# Altium footprint library 创新实验室51开发板.PcbLib: 26 footprints (part 2 of 2)
Each footprint in its own frame and in the unit in brackets; x right, y up, seen from the top. Pads: shape width x height; smd on the part's side, far side on the other; paste and mask are expansions set on the pad; w line width, h text height; cw(c..) or ccw(c..) is an arc to the next point about the centre after c.
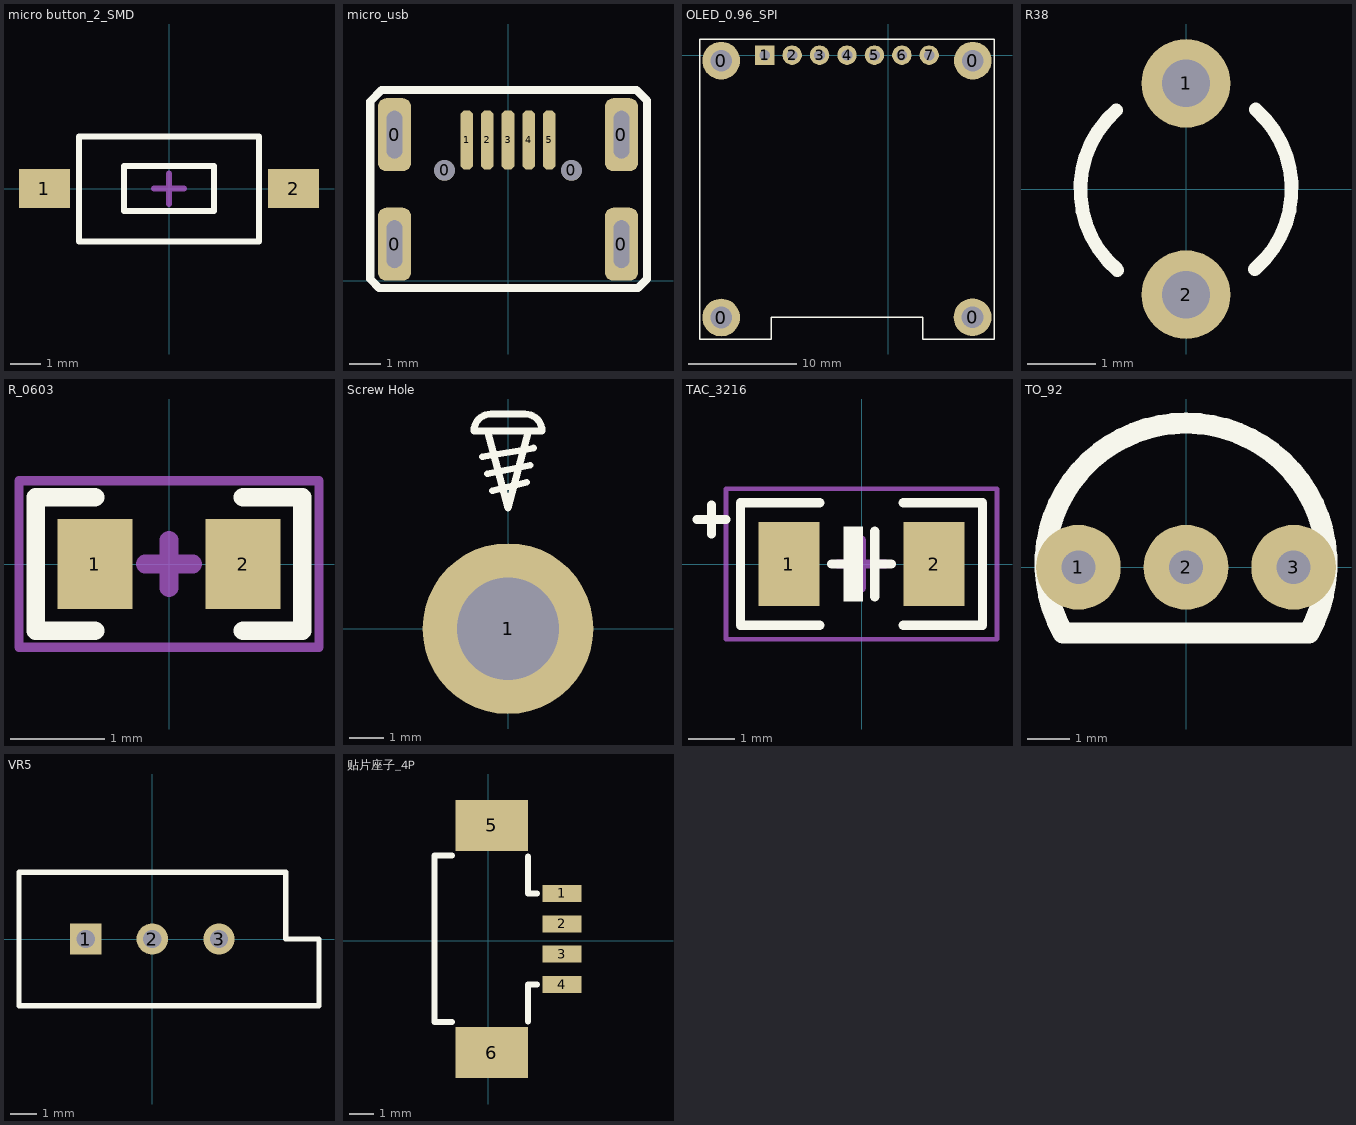
[diagram p1: the footprints below, top view; thin cyan lines are the x and y axes]

## micro button_2_SMD [mm]
height 4.06
pads (2):
  rect 1.7x1.3 smd: 1(-4.15,0) 2(4.15,0)
Top Overlay:
  lines w0.2: -3,-1.76 3,-1.76 3,1.74 -3,1.74 -3,-1.76 ; -1.495,-0.75 -1.495,0.75 1.505,0.75 1.505,-0.75 -1.495,-0.75
Mechanical 15:
  lines w0.2: -0.508,0 0.508,0 ; 0,-0.508 0,0.508
3D body "Micro Button_2_SMD.STEP": height 4.51, standoff 0.01, extent -4.5,-1.75 4.5,1.75

## micro_usb [mm]
pads (11):
  rrect50% 1.05x2.3 hole 0.5 slot 1.5 at 90 deg: 0(-3.575,1.15) 0(-3.575,4.6) 0(3.575,1.15) 0(3.575,4.6)
  round 0.65 hole 0.65 unplated: 0(-2,3.475) 0(2,3.475)
  oct 0.4x1.85 smd: 1(-1.3,4.434) 2(-0.65,4.434) 3(0,4.434) 4(0.65,4.434) 5(1.3,4.434)
Top Overlay:
  lines w0.254: -4.34,0.05 -4.06,-0.23 4.09,-0.23 4.38,0.06 4.38,5.68 4.05,6.01 -3.98,6.01 -4.34,5.65 -4.34,0.05

## OLED_0.96_SPI [mm] "GND、VCC、SCL、SDA"
height 4.06
pads (11):
  round 3.5 hole 2 unplated mask+0.102: 0(-15.469,-24.308) 0(-15.469,-0.508) 0(7.823,-24.282) 0(7.849,-0.508)
  rect 1.8x1.8 hole 1 mask+0.102: 1(-11.43,0)
  round 1.8 hole 1 mask+0.102: 2(-8.89,0) 3(-6.35,0) 4(-3.81,0) 5(-1.27,0) 6(1.27,0) 7(3.81,0)
Top Overlay:
  lines w0.127: 9.83,1.5 -17.46,1.5 -17.46,-26.3 -10.81,-26.3 -10.81,-24.3 -10.792,-24.282 1.172,-24.282 3.2,-24.282 3.19,-24.293 3.19,-26.3 9.84,-26.3 9.84,1.5

## R38 [mm] "Crystal, Thru-Hole; 2 Leads; Body 3.1 x 8.2 mm (Dia.xH)"
height 8.2
pads (2):
  round 1.3 hole 0.7: 1(0,1.55) 2(0,-1.55)
Top Overlay:
  lines w0.2: -1.022,1.155 ccw(c0,-0.01) -1.006,-1.189 ; 1.006,-1.179 ccw(c0,0) 1.022,1.165

## R_0603 [mm]
height 4.06
pads (2):
  rect 0.8x0.96 smd: 1(-0.79,0) 2(0.79,0)
Top Overlay:
  lines w0.2: -0.79,-0.711 -1.422,-0.711 -1.422,0.711 -0.79,0.711 ; 0.79,-0.711 1.422,-0.711 1.422,0.711 0.79,0.711
Mechanical 15:
  lines w0.1: -1.6,-0.889 -1.6,0.889 1.6,0.889 1.6,-0.889 -1.6,-0.889
  lines w0.2: -0.254,0 0.254,0 ; 0,-0.254 0,0.254
3D body "R_0603.STEP": height 0.41, standoff -0.01, extent -0.762,-0.381 0.762,0.381

## Screw Hole [mm]
pads (1):
  round 5 hole 3: 1(0,0)
Top Overlay:
  lines w0.2: -0.75,5.036 0.75,5.286 ; -0.6,4.536 0.65,4.786 ; -0.6,5.786 0,3.536 0.6,5.786 ; -0.45,4.036 0.55,4.286 ; -1,5.786 cw(c-0.5,5.786) -0.5,6.286 0.5,6.286 cw(c0.5,5.786) 1,5.786 -1,5.786
Bottom Overlay:
  lines w0.2: -0.75,5.286 0.75,5.036 ; -0.65,4.786 0.6,4.536 ; -0.6,5.786 0,3.536 0.6,5.786 ; -0.55,4.286 0.45,4.036 ; -1,5.786 cw(c-0.5,5.786) -0.5,6.286 0.5,6.286 cw(c0.5,5.786) 1,5.786 -1,5.786
3D body "M3螺?": height 2.55, standoff -5, extent -2.599,-2.599 2.599,2.599

## TAC_3216 [mm]
height 4.06
pads (2):
  rect 1.3x1.8 smd: 1(-1.55,0) 2(1.55,0)
Top Overlay:
  rectangle: -0.38,-0.8 0.03,0.8
  lines w0.2: -3.515,0.95 -2.895,0.95 ; -3.205,0.64 -3.205,1.26 ; -0.895,-1.31 -2.585,-1.31 -2.585,1.31 -0.895,1.31 ; -0.636,0 -0.229,0 ; 0.28,-0.7 0.28,0.7 ; 0.279,0 0.636,0 ; 0.895,-1.31 2.585,-1.31 2.585,1.31 0.895,1.31
Mechanical 15:
  lines w0.1: -2.895,-1.61 2.895,-1.61 2.895,1.61 -2.895,1.61 -2.895,-1.61
  lines w0.2: -0.508,0 0.508,0 ; 0,-0.508 0,0.508
3D body "TAC_3216.STEP": height 1.6, standoff 0, extent -1.75,-0.8 1.75,0.8

## TO_92 [mm]
height 4.06
pads (3):
  round 2 hole 0.8: 1(-2.54,0) 2(0,0) 3(2.54,0)
Top Overlay:
  lines w0.5: -2.9,-1.55 cw(c0,0.077) 2.9,-1.55 -2.9,-1.55
3D body "TO_92.STEP": height 11.7, standoff -2.5, extent -2.79,-1.6 2.79,2.4

## VR5 [mm] "Thru-Hole; 3 Leads"
height 4.06
pads (3):
  rect 1.2x1.2 hole 0.7: 1(-2.54,0)
  round 1.2 hole 0.7: 2(0,0) 3(2.54,0)
Top Overlay:
  lines w0.2: -5.08,-2.54 6.35,-2.54 6.35,0 5.08,0 5.08,2.54 -5.08,2.54 -5.08,-2.54

## 贴片座子_4P [mm]
height 1.6
pads (6):
  rect 1.6x0.7 smd: 1(3.039,1.944) 2(3.039,0.694) 3(3.039,-0.556) 4(3.039,-1.806)
  rect 3x2.1 smd: 5(0.139,4.744) 6(0.139,-4.606)
Top Overlay:
  lines w0.254: -1.494,-3.348 -2.219,-3.348 -2.219,3.502 -1.494,3.502 ; 1.639,-3.323 1.639,-1.806 2.006,-1.806 ; 1.639,3.452 1.639,1.944 2.006,1.944